# EAGLE library part 61201621721 (library SamacSys_Parts)
Wurth Elektronik WR-BHD, 2.54mm Pitch, 16 Way, 2 Row, Right Angle PCB Header, Through Hole Source: Datasheet
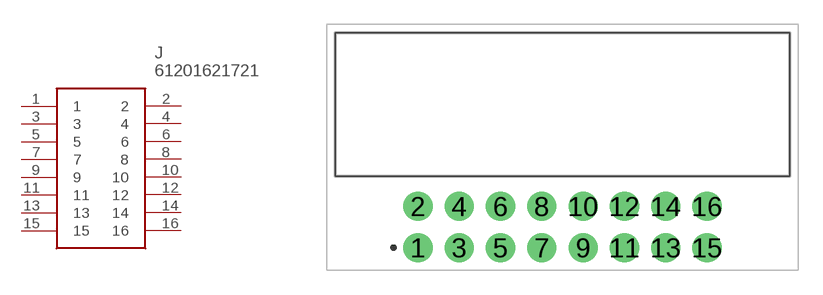
[diagram p1: symbol with the pads of 61201621721; footprint 61201621721]

Designator prefix J

## 61201621721 (DESCRIPTION: Wurth Elektronik WR-BHD, 2.54mm Pitch, 16 Way, 2 Row, Right Angle PCB Header, Through Hole; HEIGHT: 9.1mm; MANUFACTURER_NAME: Wurth Elektronik; MANUFACTURER_PART_NUMBER: 61201621721; MOUSER_PART_NUMBER: 710-61201621721; MOUSER_PRICE-STOCK: https://www.mouser.co.uk/ProductDetail/Wurth-Elektronik/61201621721?qs=ZtY9WdtwX56ShT0tAQh3qw%3D%3D)  [61201621721]
1  1
2  2
3  3
4  4
5  5
6  6
7  7
8  8
9  9
10  10
11  11
12  12
13  13
14  14
15  15
16  16

## Footprint 61201621721 (pad centres in mm)
61201621721-2
drill 1.2 pad 1.8: 1 0,0; 2 0,2.54; 3 2.54,0; 4 2.54,2.54; 5 5.08,0; 6 5.08,2.54; 7 7.62,0; 8 7.62,2.54; 9 10.16,0; 10 10.16,2.54; 11 12.7,0; 12 12.7,2.54; 13 15.24,0; 14 15.24,2.54; 15 17.78,0; 16 17.78,2.54